# Altium footprint library STM32F103C8T6核心板封装库.PcbLib: 14 footprints
Each footprint in its own frame and in the unit in brackets; x right, y up, seen from the top. Pads: shape width x height; smd on the part's side, far side on the other; paste and mask are expansions set on the pad; w line width, h text height; cw(c..) or ccw(c..) is an arc to the next point about the centre after c.
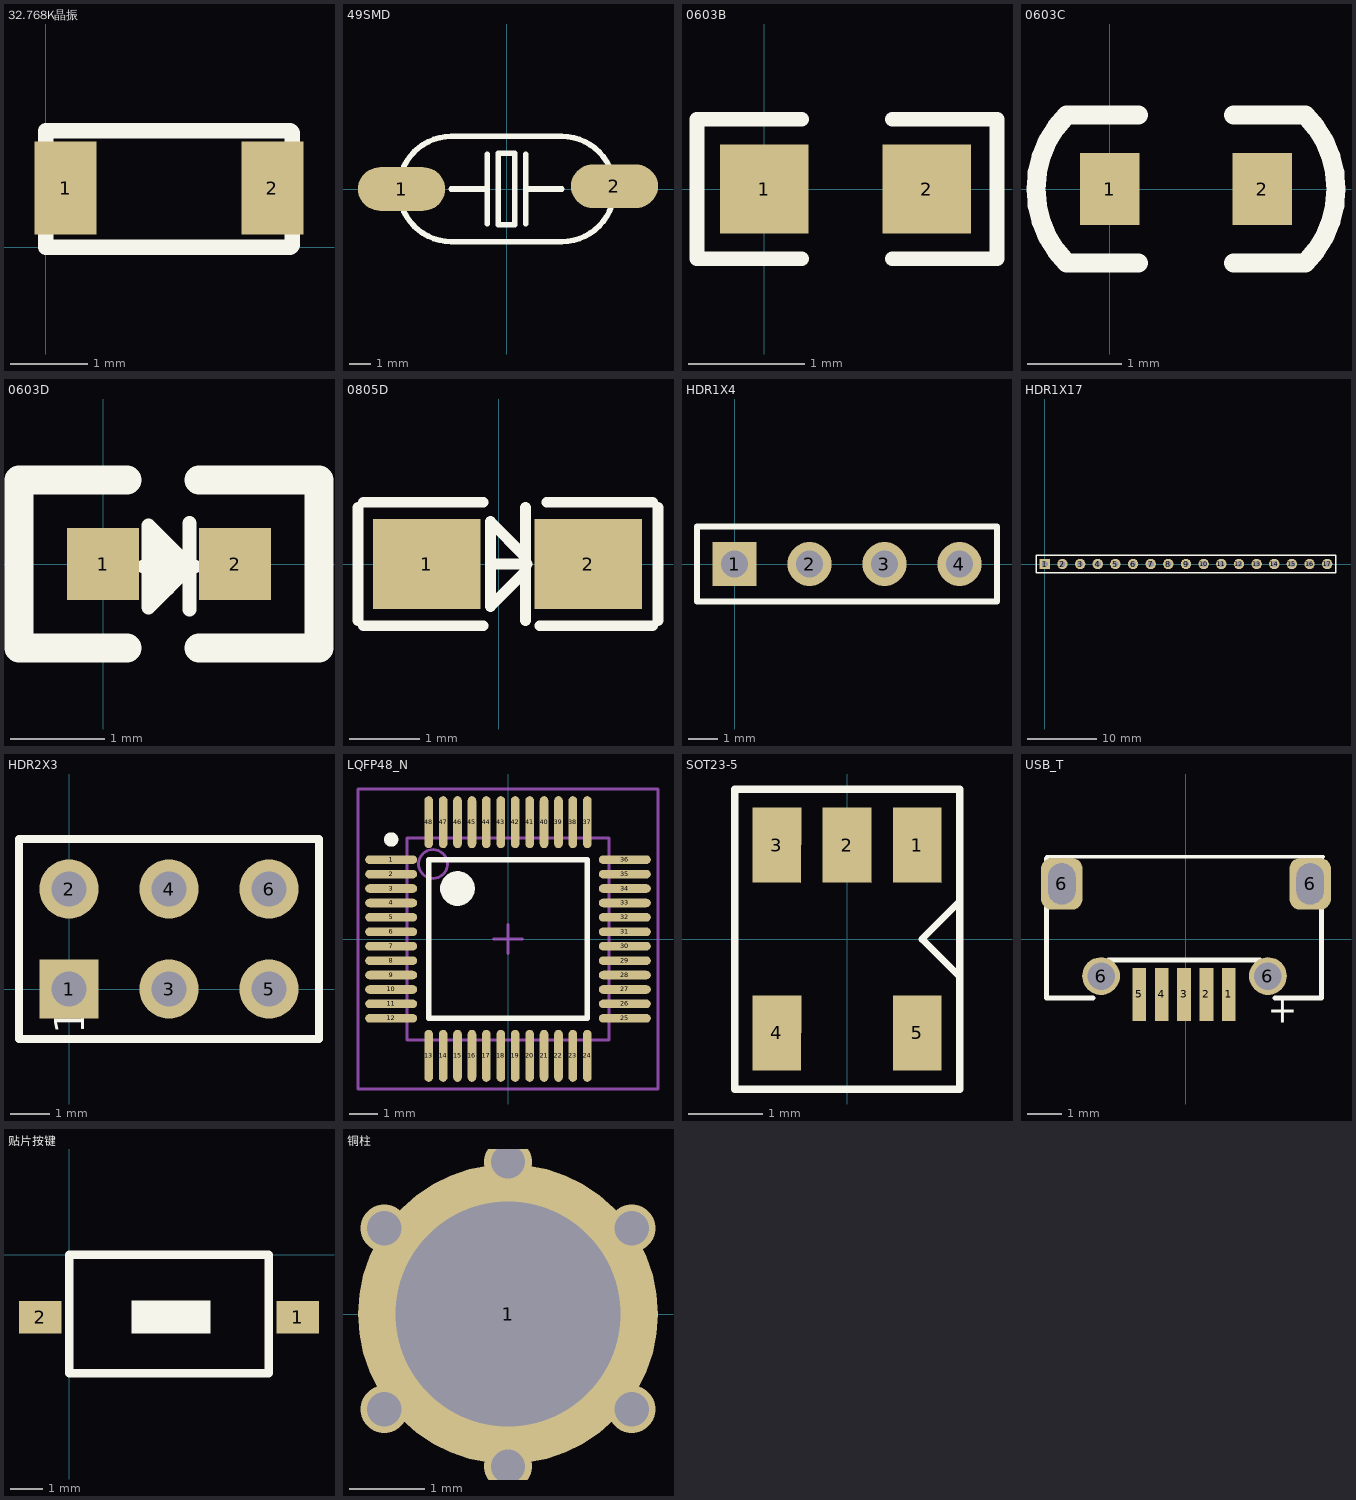
[diagram p0: the footprints below, top view; thin cyan lines are the x and y axes]

## 32.768K晶振 [mm]
pads (2):
  rect 0.8x1.2 smd: 1(0.254,0.762) 2(2.921,0.762)
Top Overlay:
  lines w0.203: 0,0 3.15,0 3.175,0.025 3.175,1.476 3.151,1.5 0,1.5 0,0

## 49SMD [mm]
pads (2):
  oval 4x2 smd: 1(-4.826,0) 2(4.953,0.127)
Top Overlay:
  lines w0.254: -2.54,0 -0.889,0 ; -0.889,-1.606 -0.889,1.606 ; 0.889,-1.606 0.889,1.606 ; 0.889,0 2.54,0 ; -2.54,-2.413 cw(c-2.54,0) -2.54,2.413 2.54,2.413 cw(c2.54,0) 2.54,-2.413 -2.54,-2.413 ; -0.381,-1.651 -0.381,1.651 0.381,1.651 0.381,-1.651 -0.381,-1.651

## 0603B [mil]
pads (2):
  rect 30x30 smd: 1(0,0) 2(55,0)
Top Overlay:
  lines w5: 12.63,-23.62 -22.8,-23.62 -22.8,23.62 12.63,23.62 ; 43.37,-23.62 78.8,-23.62 78.8,23.62 43.37,23.62

## 0603C [mil]
pads (2):
  rect 25x30 smd: 1(0,0) 2(64,0)
Top Overlay:
  lines w8: 12,-31 -18,-31 cw(c13,0) -18,31 12,31 ; 52,-31 82,-31 ccw(c51,0) 82,31 52,31

## 0603D [mil]
height 68.9
pads (2):
  rect 30x30 smd: 1(0,0) 2(55,0)
Top Overlay:
  lines w5.91: 17,-1 38,-1 ; 36,-19 36,17 ; 19,-18 36,-1 19,16 19,-18
  lines w11.81: 25,-8 25,5
  lines w12: 10,-35 -35,-35 -35,35 10,35 ; 40,-35 90,-35 90,35 40,35

## 0805D [mil]
pads (2):
  rect 60x50 smd: 1(-40,0) 2(50,0)
Top Overlay:
  lines w6.06: -78.43,-31.5 -78.43,31.5 ; -75.43,-34.5 -8.5,-34.5 ; -75.43,34.5 -8.5,34.5 ; -4.25,0 15.87,0 ; 15.05,-4 -4.57,-23.62 -4.57,23.62 15.12,3.94 ; 15.12,-31.56 15.12,31.43 ; 22.99,-34.5 85.98,-34.5 ; 26.93,34.5 85.98,34.5 ; 88.98,-31.5 88.98,31.5

## HDR1X4 [mm] "Connector; Header; 4 Position"
pads (4):
  rect 1.5x1.5 hole 0.9: 1(0,0)
  round 1.5 hole 0.9: 2(2.54,0) 3(5.08,0) 4(7.62,0)
Top Overlay:
  lines w0.2: -1.27,-1.27 -1.27,1.27 8.89,1.27 8.89,-1.27 -1.27,-1.27

## HDR1X17 [mm] "Connector; Header; 17 Position"
pads (17):
  rect 1.5x1.5 hole 0.9: 1(0,0)
  round 1.5 hole 0.9: 2(2.54,0) 3(5.08,0) 4(7.62,0) 5(10.16,0) 6(12.7,0) 7(15.24,0) 8(17.78,0) 9(20.32,0) 10(22.86,0) 11(25.4,0) 12(27.94,0) 13(30.48,0) 14(33.02,0) 15(35.56,0) 16(38.1,0) 17(40.64,0)
Top Overlay:
  lines w0.2: -1.27,-1.27 41.91,-1.27 41.91,1.27 0.635,1.27 -1.27,1.27 -1.27,-1.27

## HDR2X3 [mm] "Connector; Header; 3x2 Position"
pads (6):
  rect 1.5x1.5 hole 0.9: 1(0,0)
  round 1.5 hole 0.9: 2(0,2.54) 3(2.54,0) 4(2.54,2.54) 5(5.08,0) 6(5.08,2.54)
Top Overlay:
  lines w0.2: 1.482,-1.27 6.35,-1.27 ; 6.35,-1.27 6.35,3.81 -1.27,3.81 -1.27,-1.27 6.35,-1.27
  text "1" at 0.381,-1.143 h0.76

## LQFP48_N [mm]
pads (48):
  oval 1.8x0.3 smd: 1(-4.05,2.75) 2(-4.05,2.25) 3(-4.05,1.75) 4(-4.05,1.25) 5(-4.05,0.75) 6(-4.05,0.25) 7(-4.05,-0.25) 8(-4.05,-0.75) 9(-4.05,-1.25) 10(-4.05,-1.75) 11(-4.05,-2.25) 12(-4.05,-2.75) 25(4.05,-2.75) 26(4.05,-2.25) 27(4.05,-1.75) 28(4.05,-1.25) 29(4.05,-0.75) 30(4.05,-0.25) 31(4.05,0.25) 32(4.05,0.75) 33(4.05,1.25) 34(4.05,1.75) 35(4.05,2.25) 36(4.05,2.75)
  oval 0.3x1.8 smd: 13(-2.75,-4.05) 14(-2.25,-4.05) 15(-1.75,-4.05) 16(-1.25,-4.05) 17(-0.75,-4.05) 18(-0.25,-4.05) 19(0.25,-4.05) 20(0.75,-4.05) 21(1.25,-4.05) 22(1.75,-4.05) 23(2.25,-4.05) 24(2.75,-4.05) 37(2.75,4.05) 38(2.25,4.05) 39(1.75,4.05) 40(1.25,4.05) 41(0.75,4.05) 42(0.25,4.05) 43(-0.25,4.05) 44(-0.75,4.05) 45(-1.25,4.05) 46(-1.75,4.05) 47(-2.25,4.05) 48(-2.75,4.05)
Top Overlay:
  circle w0.6: c-1.75,1.75 r0.3
  circle w0.25: c-4.05,3.45 r0.125
  lines w0.2: -2.75,-2.75 2.75,-2.75 2.75,2.75 -2.75,2.75 -2.75,-2.75
Mechanical 13:
  circle w0.1: c-2.6,2.6 r0.5
  lines w0.1: -3.5,-3.5 3.5,-3.5 3.5,3.5 -3.5,3.5 -3.5,-3.5
Mechanical 15:
  lines w0.1: -0.5,0 0.5,0 ; 0,-0.5 0,0.5 ; -5.2,-5.2 5.2,-5.2 5.2,5.2 -5.2,5.2 -5.2,-5.2

## SOT23-5 [mil]
height 47.24
pads (5):
  rect 26x40 smd: 1(37.4,50) 2(0,50) 3(-37.4,50) 4(-37.4,-50) 5(37.4,-50)
Top Overlay:
  lines w4: 60,-20 40,0 60,20 ; -60,-80 60,-80 60,80 -60,80 -60,-80
  text "." at 70,49 h30

## USB_T [mm]
height 1.75
pads (9):
  rect 0.4x1.55 smd: 1(1.244,-1.608) 2(0.593,-1.608) 3(-0.056,-1.608) 4(-0.706,-1.608) 5(-1.356,-1.608)
  rrect50% 1.2x1.5 hole 0.8 slot 1.2 at 90 deg: 6(-3.612,1.608) 6(3.612,1.608)
  round 1.1 hole 0.8: 6(-2.469,-1.072) 6(2.382,-1.072)
Top Overlay:
  lines w0.1: -4.056,2.392 3.993,2.392
  lines w0.152: -4.056,2.344 -4.056,-1.708 -2.706,-1.708 ; -2.256,-0.608 2.144,-0.608 ; 2.593,-1.708 3.943,-1.708 3.943,2.37
  text "+" at 3.244,-1.758 h0.76

## 贴片按键 [mm]
pads (2):
  rect 1.3x1 smd: 1(6.985,-1.905) 2(-0.889,-1.905)
Top Overlay:
  rectangle: 1.905,-2.413 4.318,-1.397
  lines w0.254: 0,-3.62 6.1,-3.62 6.1,0 0,0 0,-3.62

## 铜柱 [mm]
pads (1):
  round 4 hole 3: 1(0,0)
via -1.651,1.143 diameter 0.635 hole 0.457
via -1.651,-1.27 diameter 0.635 hole 0.457
via 0,-2.032 diameter 0.635 hole 0.457
via 1.651,-1.27 diameter 0.635 hole 0.457
via 1.651,1.143 diameter 0.635 hole 0.457
via 0,2.032 diameter 0.635 hole 0.457